# EAGLE library part SOLDERPAD (library logik)
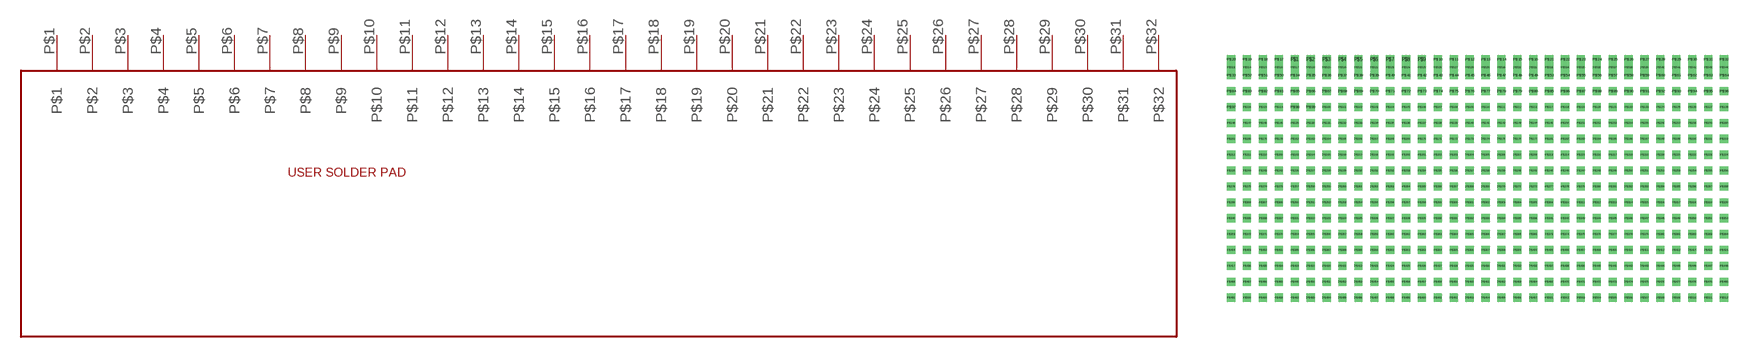
[diagram p23: symbol with the pads of SOLDERPAD; footprint SOLDERPAD]

Designator prefix -

## SOLDERPAD  [SOLDERPAD]
P$1  P$1
P$2  P$2
P$3  P$3
P$4  P$4
P$5  P$5
P$6  P$6
P$7  P$7
P$8  P$8
P$9  P$9
P$10  P$10
P$11  P$11
P$12  P$12
P$13  P$13
P$14  P$14
P$15  P$15
P$16  P$16
P$17  P$17
P$18  P$18
P$19  P$19
P$20  P$20
P$21  P$21
P$22  P$22
P$23  P$23
P$24  P$24
P$25  P$25
P$26  P$26
P$27  P$27
P$28  P$28
P$29  P$29
P$30  P$30
P$31  P$31
P$32  P$32

## Footprint SOLDERPAD (pad centres in mm)
drill 0.8 square: P$1 -13.97,6.35; P$2 -11.43,6.35; P$3 -8.89,6.35; P$4 -6.35,6.35; P$5 -3.81,6.35; P$6 -1.27,6.35; P$7 1.27,6.35; P$8 3.81,6.35; P$9 6.35,6.35; P$10 8.89,6.35; P$11 11.43,6.35; P$12 13.97,6.35; P$13 16.51,6.35; P$14 19.05,6.35; P$15 21.59,6.35; P$16 24.13,6.35; P$17 -16.51,6.35; P$18 -19.05,6.35; P$19 -21.59,6.35; P$20 -24.13,6.35; P$21 26.67,6.35; P$22 29.21,6.35; P$23 31.75,6.35; P$24 34.29,6.35; P$25 36.83,6.35; P$26 39.37,6.35; P$27 41.91,6.35; P$28 44.45,6.35; P$29 46.99,6.35; P$30 49.53,6.35; P$31 52.07,6.35; P$32 54.61,6.35; P$33 -24.13,3.81; P$34 -13.97,3.81; P$35 -11.43,3.81; P$36 -8.89,3.81; P$37 -6.35,3.81; P$38 -3.81,3.81; P$39 -1.27,3.81; P$40 1.27,3.81; P$41 3.81,3.81; P$42 6.35,3.81; P$43 8.89,3.81; P$44 11.43,3.81; P$45 13.97,3.81; P$46 16.51,3.81; P$47 19.05,3.81; P$48 21.59,3.81; P$49 24.13,3.81; P$50 -16.51,3.81; P$51 -19.05,3.81; P$52 -21.59,3.81; P$53 26.67,3.81; P$54 29.21,3.81; P$55 31.75,3.81; P$56 34.29,3.81; P$57 36.83,3.81; P$58 39.37,3.81; P$59 41.91,3.81; P$60 44.45,3.81; P$61 46.99,3.81; P$62 49.53,3.81; P$63 52.07,3.81; P$64 54.61,3.81; P$65 -13.97,1.27; P$66 -11.43,1.27; P$67 -8.89,1.27; P$68 -6.35,1.27; P$69 -3.81,1.27; P$70 -1.27,1.27; P$71 1.27,1.27; P$72 3.81,1.27; P$73 6.35,1.27; P$74 8.89,1.27; P$75 11.43,1.27; P$76 13.97,1.27; P$77 16.51,1.27; P$78 19.05,1.27; P$79 21.59,1.27; P$80 24.13,1.27; P$81 -16.51,1.27; P$82 -19.05,1.27; P$83 -21.59,1.27; P$84 -24.13,1.27; P$85 26.67,1.27; P$86 29.21,1.27; P$87 31.75,1.27; P$88 34.29,1.27; P$89 36.83,1.27; P$90 39.37,1.27; P$91 41.91,1.27; P$92 44.45,1.27; P$93 46.99,1.27; P$94 49.53,1.27; P$95 52.07,1.27; P$96 54.61,1.27; P$97 -24.13,-1.27; P$98 -13.97,-1.27; P$99 -11.43,-1.27; P$100 -8.89,-1.27; P$101 -6.35,-1.27; P$102 -3.81,-1.27; P$103 -1.27,-1.27; P$104 1.27,-1.27; P$105 3.81,-1.27; P$106 6.35,-1.27; P$107 8.89,-1.27; P$108 11.43,-1.27; P$109 13.97,-1.27; P$110 16.51,-1.27; P$111 19.05,-1.27; P$112 21.59,-1.27; P$113 24.13,-1.27; P$114 -16.51,-1.27; P$115 -19.05,-1.27; P$116 -21.59,-1.27; P$117 26.67,-1.27; P$118 29.21,-1.27; P$119 31.75,-1.27; P$120 34.29,-1.27; P$121 36.83,-1.27; P$122 39.37,-1.27; P$123 41.91,-1.27; P$124 44.45,-1.27; P$125 46.99,-1.27; P$126 49.53,-1.27; P$127 52.07,-1.27; P$128 54.61,-1.27; P$129 -13.97,-3.81; P$130 -11.43,-3.81; P$131 -8.89,-3.81; P$132 -6.35,-3.81; P$133 -3.81,-3.81; P$134 -1.27,-3.81; P$135 1.27,-3.81; P$136 3.81,-3.81; P$137 6.35,-3.81; P$138 8.89,-3.81; P$139 11.43,-3.81; P$140 13.97,-3.81; P$141 16.51,-3.81; P$142 19.05,-3.81; P$143 21.59,-3.81; P$144 24.13,-3.81; P$145 -16.51,-3.81; P$146 -19.05,-3.81; P$147 -21.59,-3.81; P$148 -24.13,-3.81; P$149 26.67,-3.81; P$150 29.21,-3.81; P$151 31.75,-3.81; P$152 34.29,-3.81; P$153 36.83,-3.81; P$154 39.37,-3.81; P$155 41.91,-3.81; P$156 44.45,-3.81; P$157 46.99,-3.81; P$158 49.53,-3.81; P$159 52.07,-3.81; P$160 54.61,-3.81; P$161 -24.13,-6.35; P$162 -13.97,-6.35; P$163 -11.43,-6.35; P$164 -8.89,-6.35; P$165 -6.35,-6.35; P$166 -3.81,-6.35; P$167 -1.27,-6.35; P$168 1.27,-6.35; P$169 3.81,-6.35; P$170 6.35,-6.35; P$171 8.89,-6.35; P$172 11.43,-6.35; P$173 13.97,-6.35; P$174 16.51,-6.35; P$175 19.05,-6.35; P$176 21.59,-6.35; P$177 24.13,-6.35; P$178 -16.51,-6.35; P$179 -19.05,-6.35; P$180 -21.59,-6.35; P$181 26.67,-6.35; P$182 29.21,-6.35; P$183 31.75,-6.35; P$184 34.29,-6.35; P$185 36.83,-6.35; P$186 39.37,-6.35; P$187 41.91,-6.35; P$188 44.45,-6.35; P$189 46.99,-6.35; P$190 49.53,-6.35; P$191 52.07,-6.35; P$192 54.61,-6.35; P$193 -13.97,-8.89; P$194 -11.43,-8.89; P$195 -8.89,-8.89; P$196 -6.35,-8.89; P$197 -3.81,-8.89; P$198 -1.27,-8.89; P$199 1.27,-8.89; P$200 3.81,-8.89; P$201 6.35,-8.89; P$202 8.89,-8.89; P$203 11.43,-8.89; P$204 13.97,-8.89; P$205 16.51,-8.89; P$206 19.05,-8.89; P$207 21.59,-8.89; P$208 24.13,-8.89; P$209 -16.51,-8.89; P$210 -19.05,-8.89; P$211 -21.59,-8.89; P$212 -24.13,-8.89; P$213 26.67,-8.89; P$214 29.21,-8.89; P$215 31.75,-8.89; P$216 34.29,-8.89; P$217 36.83,-8.89; P$218 39.37,-8.89; P$219 41.91,-8.89; P$220 44.45,-8.89; P$221 46.99,-8.89; P$222 49.53,-8.89; P$223 52.07,-8.89; P$224 54.61,-8.89; P$225 -24.13,-11.43; P$226 -13.97,-11.43; P$227 -11.43,-11.43; P$228 -8.89,-11.43; P$229 -6.35,-11.43; P$230 -3.81,-11.43; P$231 -1.27,-11.43; P$232 1.27,-11.43; P$233 3.81,-11.43; P$234 6.35,-11.43; P$235 8.89,-11.43; P$236 11.43,-11.43; P$237 13.97,-11.43; P$238 16.51,-11.43; P$239 19.05,-11.43; P$240 21.59,-11.43; P$241 24.13,-11.43; P$242 -16.51,-11.43; P$243 -19.05,-11.43; P$244 -21.59,-11.43; P$245 26.67,-11.43; P$246 29.21,-11.43; P$247 31.75,-11.43; P$248 34.29,-11.43; P$249 36.83,-11.43; P$250 39.37,-11.43; P$251 41.91,-11.43; P$252 44.45,-11.43; P$253 46.99,-11.43; P$254 49.53,-11.43; P$255 52.07,-11.43; P$256 54.61,-11.43; P$257 -13.97,-13.97; P$258 -11.43,-13.97; P$259 -8.89,-13.97; P$260 -6.35,-13.97; P$261 -3.81,-13.97; P$262 -1.27,-13.97; P$263 1.27,-13.97; P$264 3.81,-13.97; P$265 6.35,-13.97; P$266 8.89,-13.97; P$267 11.43,-13.97; P$268 13.97,-13.97; P$269 16.51,-13.97; P$270 19.05,-13.97; P$271 21.59,-13.97; P$272 24.13,-13.97; P$273 -16.51,-13.97; P$274 -19.05,-13.97; P$275 -21.59,-13.97; P$276 -24.13,-13.97; P$277 26.67,-13.97; P$278 29.21,-13.97; P$279 31.75,-13.97; P$280 34.29,-13.97; P$281 36.83,-13.97; P$282 39.37,-13.97; P$283 41.91,-13.97; P$284 44.45,-13.97; P$285 46.99,-13.97; P$286 49.53,-13.97; P$287 52.07,-13.97; P$288 54.61,-13.97; P$289 -24.13,-16.51; P$290 -13.97,-16.51; P$291 -11.43,-16.51; P$292 -8.89,-16.51; P$293 -6.35,-16.51; P$294 -3.81,-16.51; P$295 -1.27,-16.51; P$296 1.27,-16.51; P$297 3.81,-16.51; P$298 6.35,-16.51; P$299 8.89,-16.51; P$300 11.43,-16.51; P$301 13.97,-16.51; P$302 16.51,-16.51; P$303 19.05,-16.51; P$304 21.59,-16.51; P$305 24.13,-16.51; P$306 -16.51,-16.51; P$307 -19.05,-16.51; P$308 -21.59,-16.51; P$309 26.67,-16.51; P$310 29.21,-16.51; P$311 31.75,-16.51; P$312 34.29,-16.51; P$313 36.83,-16.51; P$314 39.37,-16.51; P$315 41.91,-16.51; P$316 44.45,-16.51; P$317 46.99,-16.51; P$318 49.53,-16.51; P$319 52.07,-16.51; P$320 54.61,-16.51; P$321 -13.97,-19.05; P$322 -11.43,-19.05; P$323 -8.89,-19.05; P$324 -6.35,-19.05; P$325 -3.81,-19.05; P$326 -1.27,-19.05; P$327 1.27,-19.05; P$328 3.81,-19.05; P$329 6.35,-19.05; P$330 8.89,-19.05; P$331 11.43,-19.05; P$332 13.97,-19.05; P$333 16.51,-19.05; P$334 19.05,-19.05; P$335 21.59,-19.05; P$336 24.13,-19.05; P$337 -16.51,-19.05; P$338 -19.05,-19.05; P$339 -21.59,-19.05; P$340 -24.13,-19.05; P$341 26.67,-19.05; P$342 29.21,-19.05; P$343 31.75,-19.05; P$344 34.29,-19.05; P$345 36.83,-19.05; P$346 39.37,-19.05; P$347 41.91,-19.05; P$348 44.45,-19.05; P$349 46.99,-19.05; P$350 49.53,-19.05; P$351 52.07,-19.05; P$352 54.61,-19.05; P$353 -24.13,-21.59; P$354 -13.97,-21.59; P$355 -11.43,-21.59; P$356 -8.89,-21.59; P$357 -6.35,-21.59; P$358 -3.81,-21.59; P$359 -1.27,-21.59; P$360 1.27,-21.59; P$361 3.81,-21.59; P$362 6.35,-21.59; P$363 8.89,-21.59; P$364 11.43,-21.59; P$365 13.97,-21.59; P$366 16.51,-21.59; P$367 19.05,-21.59; P$368 21.59,-21.59; P$369 24.13,-21.59; P$370 -16.51,-21.59; P$371 -19.05,-21.59; P$372 -21.59,-21.59; P$373 26.67,-21.59; P$374 29.21,-21.59; P$375 31.75,-21.59; P$376 34.29,-21.59; P$377 36.83,-21.59; P$378 39.37,-21.59; P$379 41.91,-21.59; P$380 44.45,-21.59; P$381 46.99,-21.59; P$382 49.53,-21.59; P$383 52.07,-21.59; P$384 54.61,-21.59; P$385 -13.97,-24.13; P$386 -11.43,-24.13; P$387 -8.89,-24.13; P$388 -6.35,-24.13; P$389 -3.81,-24.13; P$390 -1.27,-24.13; P$391 1.27,-24.13; P$392 3.81,-24.13; P$393 6.35,-24.13; P$394 8.89,-24.13; P$395 11.43,-24.13; P$396 13.97,-24.13; P$397 16.51,-24.13; P$398 19.05,-24.13; P$399 21.59,-24.13; P$400 24.13,-24.13; P$401 -16.51,-24.13; P$402 -19.05,-24.13; P$403 -21.59,-24.13; P$404 -24.13,-24.13; P$405 26.67,-24.13; P$406 29.21,-24.13; P$407 31.75,-24.13; P$408 34.29,-24.13; P$409 36.83,-24.13; P$410 39.37,-24.13; P$411 41.91,-24.13; P$412 44.45,-24.13; P$413 46.99,-24.13; P$414 49.53,-24.13; P$415 52.07,-24.13; P$416 54.61,-24.13; P$417 -24.13,-26.67; P$418 -13.97,-26.67; P$419 -11.43,-26.67; P$420 -8.89,-26.67; P$421 -6.35,-26.67; P$422 -3.81,-26.67; P$423 -1.27,-26.67; P$424 1.27,-26.67; P$425 3.81,-26.67; P$426 6.35,-26.67; P$427 8.89,-26.67; P$428 11.43,-26.67; P$429 13.97,-26.67; P$430 16.51,-26.67; P$431 19.05,-26.67; P$432 21.59,-26.67; P$433 24.13,-26.67; P$434 -16.51,-26.67; P$435 -19.05,-26.67; P$436 -21.59,-26.67; P$437 26.67,-26.67; P$438 29.21,-26.67; P$439 31.75,-26.67; P$440 34.29,-26.67; P$441 36.83,-26.67; P$442 39.37,-26.67; P$443 41.91,-26.67; P$444 44.45,-26.67; P$445 46.99,-26.67; P$446 49.53,-26.67; P$447 52.07,-26.67; P$448 54.61,-26.67; P$449 -13.97,-29.21; P$450 -11.43,-29.21; P$451 -8.89,-29.21; P$452 -6.35,-29.21; P$453 -3.81,-29.21; P$454 -1.27,-29.21; P$455 1.27,-29.21; P$456 3.81,-29.21; P$457 6.35,-29.21; P$458 8.89,-29.21; P$459 11.43,-29.21; P$460 13.97,-29.21; P$461 16.51,-29.21; P$462 19.05,-29.21; P$463 21.59,-29.21; P$464 24.13,-29.21; P$465 -16.51,-29.21; P$466 -19.05,-29.21; P$467 -21.59,-29.21; P$468 -24.13,-29.21; P$469 26.67,-29.21; P$470 29.21,-29.21; P$471 31.75,-29.21; P$472 34.29,-29.21; P$473 36.83,-29.21; P$474 39.37,-29.21; P$475 41.91,-29.21; P$476 44.45,-29.21; P$477 46.99,-29.21; P$478 49.53,-29.21; P$479 52.07,-29.21; P$480 54.61,-29.21; P$481 -24.13,-31.75; P$482 -13.97,-31.75; P$483 -11.43,-31.75; P$484 -8.89,-31.75; P$485 -6.35,-31.75; P$486 -3.81,-31.75; P$487 -1.27,-31.75; P$488 1.27,-31.75; P$489 3.81,-31.75; P$490 6.35,-31.75; P$491 8.89,-31.75; P$492 11.43,-31.75; P$493 13.97,-31.75; P$494 16.51,-31.75; P$495 19.05,-31.75; P$496 21.59,-31.75; P$497 24.13,-31.75; P$498 -16.51,-31.75; P$499 -19.05,-31.75; P$500 -21.59,-31.75; P$501 26.67,-31.75; P$502 29.21,-31.75; P$503 31.75,-31.75; P$504 34.29,-31.75; P$505 36.83,-31.75; P$506 39.37,-31.75; P$507 41.91,-31.75; P$508 44.45,-31.75; P$509 46.99,-31.75; P$510 49.53,-31.75; P$511 52.07,-31.75; P$512 54.61,-31.75; P$513 -24.13,5.08; P$514 -21.59,5.08; P$515 -19.05,5.08; P$516 -16.51,5.08; P$517 -13.97,5.08; P$518 -11.43,5.08; P$519 -8.89,5.08; P$520 -6.35,5.08; P$521 -3.81,5.08; P$522 -1.27,5.08; P$523 1.27,5.08; P$524 3.81,5.08; P$525 6.35,5.08; P$526 8.89,5.08; P$527 11.43,5.08; P$528 13.97,5.08; P$529 16.51,5.08; P$530 19.05,5.08; P$531 21.59,5.08; P$532 24.13,5.08; P$533 26.67,5.08; P$534 29.21,5.08; P$535 31.75,5.08; P$536 34.29,5.08; P$537 36.83,5.08; P$538 39.37,5.08; P$539 41.91,5.08; P$540 44.45,5.08; P$541 46.99,5.08; P$542 49.53,5.08; P$543 52.07,5.08; P$544 54.61,5.08